# Altium integrated library My_Microchip Microcontroller 8-Bit PIC18.IntLib: 1312 symbols (part 16 of 58)
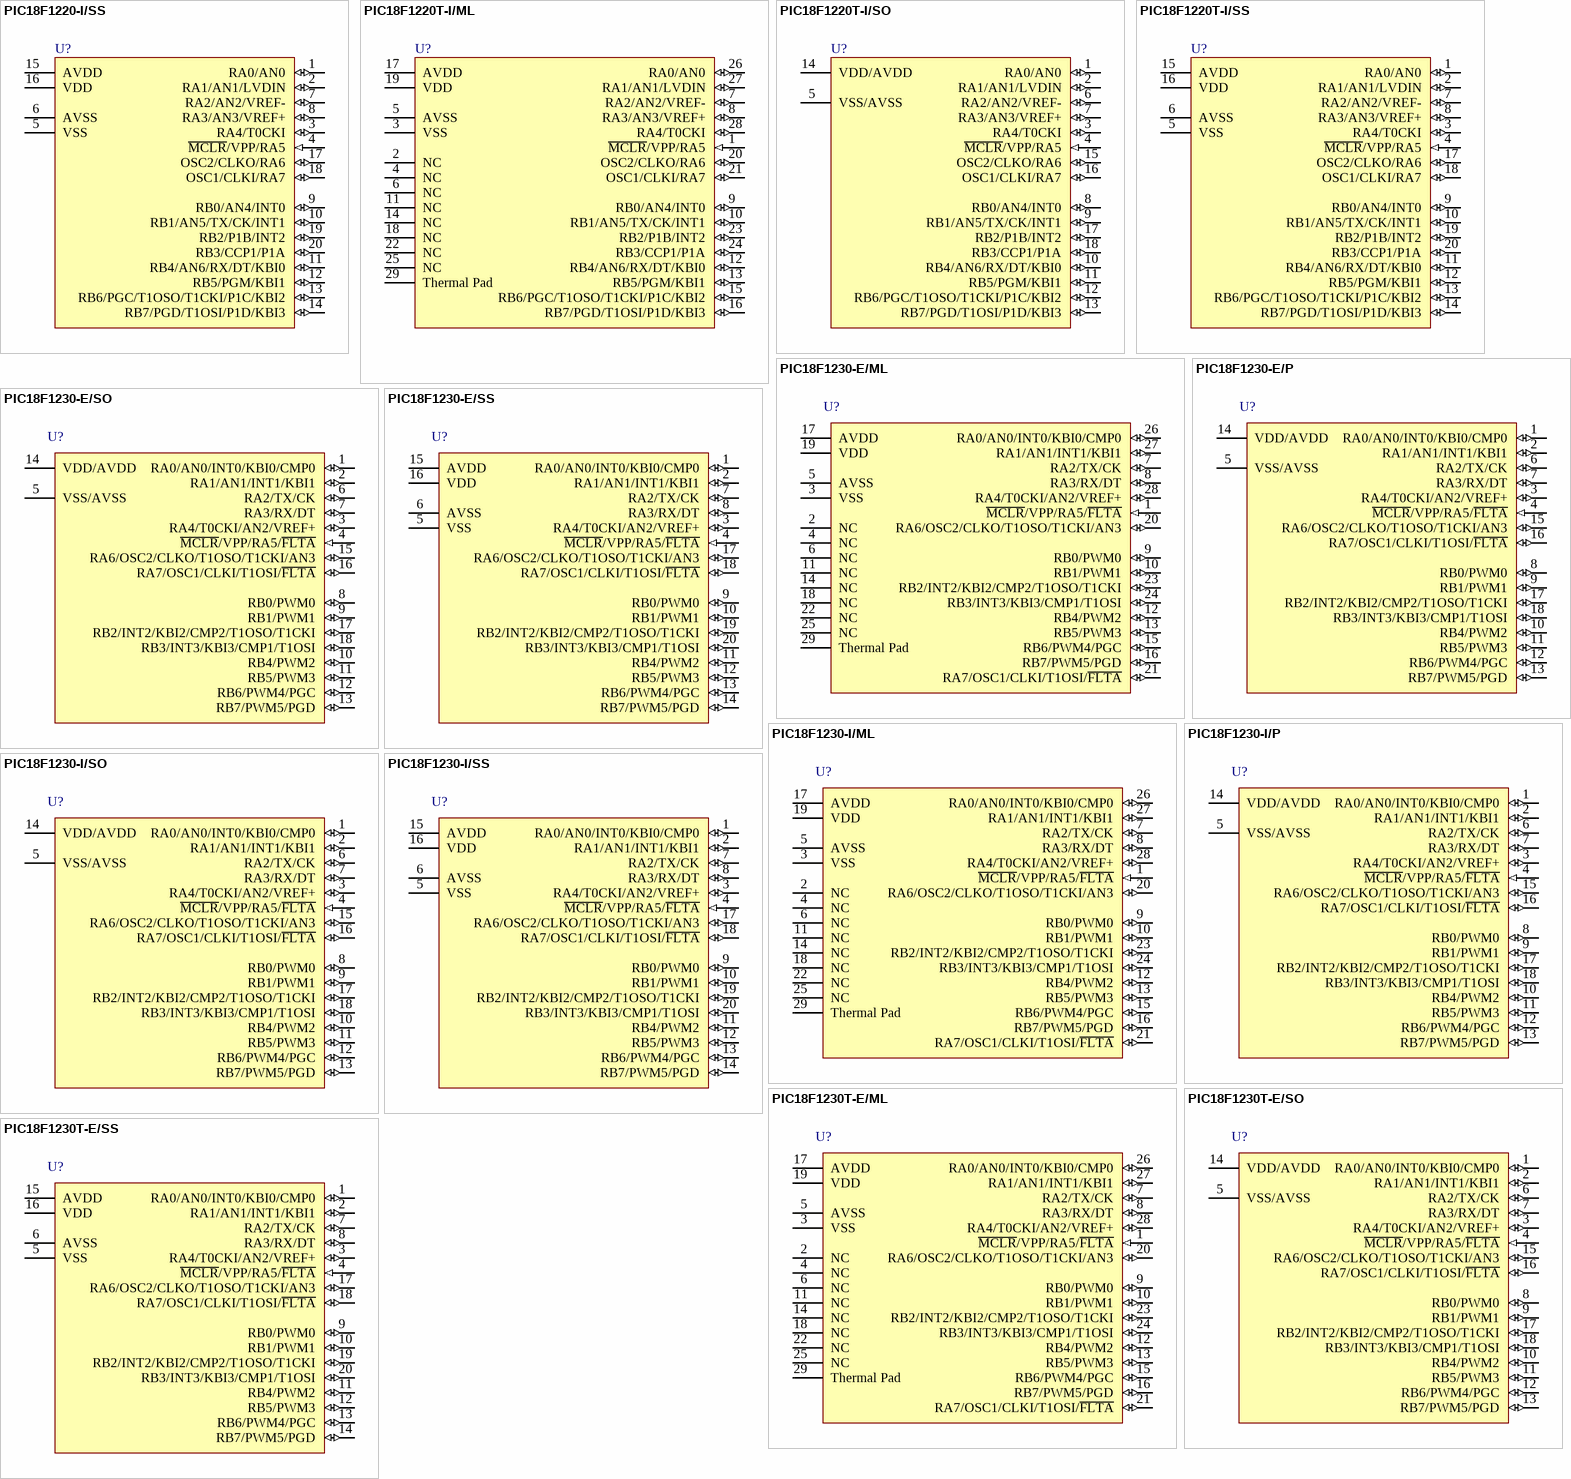
[diagram p164: symbols PIC18F1220-I/SS to PIC18F1230T-E/SS]

## PIC18F1220-I/SS
designator U?
High Performance, Enhanced Flash Microcontroller with 10-Bit A/D and nanoWatt Technology, 4K Flash, 20-Pin SSOP, Industrial Temperature; FirstPublished: 11-Oct-2004; LatestRevisionDate: 29-Jan-2009; LatestRevisionNote: Sch. layout revised. 3D Model Removed.; DatasheetVersion: revF, Feb-2007; PackageVersion: revBB, Aug-2009; PackageReference: SSOP-SS20; Publisher: Altium Limited; PackageDescription: 20-Lead Plastic Shrink Small Outline (SS) - 5.3mm Body [SSOP]; Supplier 1: Digi-Key; Supplier Part Number 1: PIC18F1220-I/SS-ND; Supplier 2: Farnell; Supplier Part Number 2: 9761993; Supplier 3: Newark; Supplier Part Number 3: 92C4997; Code_JEDEC: MO-150; Code_IPC: SOP65P780-20; ComponentLink1Description: Datasheet; ComponentLink1URL: http://ww1.microchip.com/downloads/en/DeviceDoc/39605F.pdf; ComponentLink2Description: Packaging Specification; ComponentLink2URL: http://www.microchip.com/stellent/groups/techpub_sg/documents/packagingspec/en012702.pdf; ComponentLink3Description: Microchip.com Home; ComponentLink3URL: http://www.microchip.com/
footprint SSOP-SS20_N (SOP, 20-Leads, Body 7.2x5.2mm, Pitch 0.65mm, IPC Medium Density)
footprint SSOP-SS20_L (SOP, 20-Leads, Body 7.2x5.2mm, Pitch 0.65mm, IPC High Density)
footprint SSOP-SS20_M (SOP, 20-Leads, Body 7.2x5.2mm, Pitch 0.65mm, IPC Low Density)
pins: 1 RA0/AN0 (io), 2 RA1/AN1/LVDIN (io), 3 RA4/T0CKI (io), 4 ~{MCLR}/VPP/RA5 (in), 5 VSS (power), 6 AVSS (power), 7 RA2/AN2/VREF- (io), 8 RA3/AN3/VREF+ (io), 9 RB0/AN4/INT0 (io), 10 RB1/AN5/TX/CK/INT1 (io), 11 RB4/AN6/RX/DT/KBI0 (io), 12 RB5/PGM/KBI1 (io), 13 RB6/PGC/T1OSO/T1CKI/P1C/KBI2 (io), 14 RB7/PGD/T1OSI/P1D/KBI3 (io), 15 AVDD (power), 16 VDD (power), 17 OSC2/CLKO/RA6 (io), 18 OSC1/CLKI/RA7 (io), 19 RB2/P1B/INT2 (io), 20 RB3/CCP1/P1A (io)

## PIC18F1220T-I/ML
designator U?
High Performance, Enhanced Flash Microcontroller with 10-Bit A/D and nanoWatt Technology, 4K Flash, 28-Pin QFN, Industrial Temperature, Tape and Reel; FirstPublished: 11-Oct-2004; LatestRevisionDate: 29-Jan-2009; LatestRevisionNote: Sch. layout revised. 3D Model Removed.; DatasheetVersion: revF, Feb-2007; PackageVersion: revBB, Aug-2009; PackageReference: QFN-ML28; Publisher: Altium Limited; PackageDescription: 28-Lead Plastic Quad Flat, No Lead Package (ML) - 6x6 mm Body [QFN] with 0.55 mm Contact Length; Supplier 1: Digi-Key; Supplier Part Number 1: PIC18F1220T-I/ML-ND; Code_JEDEC: MO-220; Code_IPC: QFN65P600X600-28V; ComponentLink1Description: Datasheet; ComponentLink1URL: http://ww1.microchip.com/downloads/en/DeviceDoc/39605F.pdf; ComponentLink2Description: Packaging Specification; ComponentLink2URL: http://www.microchip.com/stellent/groups/techpub_sg/documents/packagingspec/en012702.pdf; ComponentLink3Description: Microchip.com Home; ComponentLink3URL: http://www.microchip.com/
footprint QFN-ML28_N (QFN, 28-Leads, Body 6x6 mm, Pitch 0.65mm, IPC Medium Density)
footprint QFN-ML28_L (QFN, 28-Leads, Body 6x6 mm, Pitch 0.65mm, IPC High Density)
footprint QFN-ML28_M (QFN, 28-Leads, Body 6x6 mm, Pitch 0.65mm, IPC Low Density)
pins: 1 ~{MCLR}/VPP/RA5 (in), 2 NC, 3 VSS (power), 4 NC, 5 AVSS (power), 6 NC, 7 RA2/AN2/VREF- (io), 8 RA3/AN3/VREF+ (io), 9 RB0/AN4/INT0 (io), 10 RB1/AN5/TX/CK/INT1 (io), 11 NC, 12 RB4/AN6/RX/DT/KBI0 (io), 13 RB5/PGM/KBI1 (io), 14 NC, 15 RB6/PGC/T1OSO/T1CKI/P1C/KBI2 (io), 16 RB7/PGD/T1OSI/P1D/KBI3 (io), 17 AVDD (power), 18 NC, 19 VDD (power), 20 OSC2/CLKO/RA6 (io), 21 OSC1/CLKI/RA7 (io), 22 NC, 23 RB2/P1B/INT2 (io), 24 RB3/CCP1/P1A (io), 25 NC, 26 RA0/AN0 (io), 27 RA1/AN1/LVDIN (io), 28 RA4/T0CKI (io), 29 Thermal Pad (power)

## PIC18F1220T-I/SO
designator U?
High Performance, Enhanced Flash Microcontroller with 10-Bit A/D and nanoWatt Technology, 4K Flash, 18-Pin SOIC, Industrial Temperature, Tape and Reel; FirstPublished: 11-Oct-2004; LatestRevisionDate: 29-Jan-2009; LatestRevisionNote: Sch. layout revised. 3D Model Removed.; DatasheetVersion: revF, Feb-2007; PackageVersion: revBB, Aug-2009; PackageReference: SOIC-SO18; Publisher: Altium Limited; PackageDescription: 18-Lead Plastic Small Outline (SO) - Wide 7.50mm Body [SOIC]; Supplier 1: Digi-Key; Supplier Part Number 1: PIC18F1220T-I/SO-ND; Code_JEDEC: MS-013; ComponentLink1Description: Datasheet; ComponentLink1URL: http://ww1.microchip.com/downloads/en/DeviceDoc/39605F.pdf; ComponentLink2Description: Packaging Specification; ComponentLink2URL: http://www.microchip.com/stellent/groups/techpub_sg/documents/packagingspec/en012702.pdf; ComponentLink3Description: Microchip.com Home; ComponentLink3URL: http://www.microchip.com/
footprint SOIC-SO18_N (SOIC, 18-Leads, Body 11.5x7.5mm, Pitch 1.27mm, IPC Medium Density)
footprint SOIC-SO18_L (SOIC, 18-Leads, Body 11.5x7.5mm, Pitch 1.27mm, IPC High Density)
footprint SOIC-SO18_M (SOIC, 18-Leads, Body 11.5x7.5mm, Pitch 1.27mm, IPC Low Density)
pins: 1 RA0/AN0 (io), 2 RA1/AN1/LVDIN (io), 3 RA4/T0CKI (io), 4 ~{MCLR}/VPP/RA5 (in), 5 VSS/AVSS (power), 6 RA2/AN2/VREF- (io), 7 RA3/AN3/VREF+ (io), 8 RB0/AN4/INT0 (io), 9 RB1/AN5/TX/CK/INT1 (io), 10 RB4/AN6/RX/DT/KBI0 (io), 11 RB5/PGM/KBI1 (io), 12 RB6/PGC/T1OSO/T1CKI/P1C/KBI2 (io), 13 RB7/PGD/T1OSI/P1D/KBI3 (io), 14 VDD/AVDD (power), 15 OSC2/CLKO/RA6 (io), 16 OSC1/CLKI/RA7 (io), 17 RB2/P1B/INT2 (io), 18 RB3/CCP1/P1A (io)

## PIC18F1220T-I/SS
designator U?
High Performance, Enhanced Flash Microcontroller with 10-Bit A/D and nanoWatt Technology, 4K Flash, 20-Pin SSOP, Industrial Temperature, Tape and Reel; FirstPublished: 11-Oct-2004; LatestRevisionDate: 29-Jan-2009; LatestRevisionNote: Sch. layout revised. 3D Model Removed.; DatasheetVersion: revF, Feb-2007; PackageVersion: revBB, Aug-2009; PackageReference: SSOP-SS20; Publisher: Altium Limited; PackageDescription: 20-Lead Plastic Shrink Small Outline (SS) - 5.3mm Body [SSOP]; Supplier 1: Digi-Key; Supplier Part Number 1: PIC18F1220T-I/SS-ND; Code_JEDEC: MO-150; Code_IPC: SOP65P780-20; ComponentLink1Description: Datasheet; ComponentLink1URL: http://ww1.microchip.com/downloads/en/DeviceDoc/39605F.pdf; ComponentLink2Description: Packaging Specification; ComponentLink2URL: http://www.microchip.com/stellent/groups/techpub_sg/documents/packagingspec/en012702.pdf; ComponentLink3Description: Microchip.com Home; ComponentLink3URL: http://www.microchip.com/
footprint SSOP-SS20_N (SOP, 20-Leads, Body 7.2x5.2mm, Pitch 0.65mm, IPC Medium Density)
footprint SSOP-SS20_L (SOP, 20-Leads, Body 7.2x5.2mm, Pitch 0.65mm, IPC High Density)
footprint SSOP-SS20_M (SOP, 20-Leads, Body 7.2x5.2mm, Pitch 0.65mm, IPC Low Density)
pins: 1 RA0/AN0 (io), 2 RA1/AN1/LVDIN (io), 3 RA4/T0CKI (io), 4 ~{MCLR}/VPP/RA5 (in), 5 VSS (power), 6 AVSS (power), 7 RA2/AN2/VREF- (io), 8 RA3/AN3/VREF+ (io), 9 RB0/AN4/INT0 (io), 10 RB1/AN5/TX/CK/INT1 (io), 11 RB4/AN6/RX/DT/KBI0 (io), 12 RB5/PGM/KBI1 (io), 13 RB6/PGC/T1OSO/T1CKI/P1C/KBI2 (io), 14 RB7/PGD/T1OSI/P1D/KBI3 (io), 15 AVDD (power), 16 VDD (power), 17 OSC2/CLKO/RA6 (io), 18 OSC1/CLKI/RA7 (io), 19 RB2/P1B/INT2 (io), 20 RB3/CCP1/P1A (io)

## PIC18F1230-E/ML
designator U?
Enhanced Flash Microcontroller with nanoWatt Technology, High Performance PWM and A/D, 4K Flash, 28-Pin QFN, Extended Temperature; FirstPublished: 29-Jan-2009; DatasheetVersion: revC, Mar-2007; PackageVersion: revBB, Aug-2009; PackageReference: QFN-ML28; Publisher: Altium Limited; PackageDescription: 28-Lead Plastic Quad Flat, No Lead Package (ML) - 6x6 mm Body [QFN] with 0.55 mm Contact Length; Supplier 1: Digi-Key; Supplier Part Number 1: PIC18F1230-E/ML-ND; Supplier 2: Newark; Supplier Part Number 2: 88K5933; Code_JEDEC: MO-220; Code_IPC: QFN65P600X600-28V; ComponentLink1Description: Datasheet; ComponentLink1URL: http://ww1.microchip.com/downloads/en/DeviceDoc/39758c.pdf; ComponentLink2Description: Packaging Specification; ComponentLink2URL: http://www.microchip.com/stellent/groups/techpub_sg/documents/packagingspec/en012702.pdf; ComponentLink3Description: Microchip.com Home; ComponentLink3URL: http://www.microchip.com/
footprint QFN-ML28_N (QFN, 28-Leads, Body 6x6 mm, Pitch 0.65mm, IPC Medium Density)
footprint QFN-ML28_L (QFN, 28-Leads, Body 6x6 mm, Pitch 0.65mm, IPC High Density)
footprint QFN-ML28_M (QFN, 28-Leads, Body 6x6 mm, Pitch 0.65mm, IPC Low Density)
pins: 1 ~{MCLR}/VPP/RA5/~{FLTA} (in), 2 NC, 3 VSS (power), 4 NC, 5 AVSS (power), 6 NC, 7 RA2/TX/CK (io), 8 RA3/RX/DT (io), 9 RB0/PWM0 (io), 10 RB1/PWM1 (io), 11 NC, 12 RB4/PWM2 (io), 13 RB5/PWM3 (io), 14 NC, 15 RB6/PWM4/PGC (io), 16 RB7/PWM5/PGD (io), 17 AVDD (power), 18 NC, 19 VDD (power), 20 RA6/OSC2/CLKO/T1OSO/T1CKI/AN3 (io), 21 RA7/OSC1/CLKI/T1OSI/~{FLTA} (io), 22 NC, 23 RB2/INT2/KBI2/CMP2/T1OSO/T1CKI (io), 24 RB3/INT3/KBI3/CMP1/T1OSI (io), 25 NC, 26 RA0/AN0/INT0/KBI0/CMP0 (io), 27 RA1/AN1/INT1/KBI1 (io), 28 RA4/T0CKI/AN2/VREF+ (io), 29 Thermal Pad (power)

## PIC18F1230-E/P
designator U?
Enhanced Flash Microcontroller with nanoWatt Technology, High Performance PWM and A/D, 4K Flash, 18-Pin PDIP, Extended Temperature; FirstPublished: 29-Jan-2009; DatasheetVersion: revC, Mar-2007; PackageVersion: revBB, Aug-2009; PackageReference: PDIP300-P18; Publisher: Altium Limited; PackageDescription: 18-Lead Plastic Dual In-Line (P) - 300 mil Body [PDIP]; Supplier 1: Digi-Key; Supplier Part Number 1: PIC18F1230-E/P-ND; Supplier 2: Newark; Supplier Part Number 2: 88K5934; Code_JEDEC: MS-001; ComponentLink1Description: Datasheet; ComponentLink1URL: http://ww1.microchip.com/downloads/en/DeviceDoc/39758c.pdf; ComponentLink2Description: Packaging Specification; ComponentLink2URL: http://www.microchip.com/stellent/groups/techpub_sg/documents/packagingspec/en012702.pdf; ComponentLink3Description: Microchip.com Home; ComponentLink3URL: http://www.microchip.com/
footprint PDIP300-P18 (DIP, 18-Leads, Row Spacing 7.62mm, Pitch 2.54mm, Body 22.9x6.6mm)
pins: 1 RA0/AN0/INT0/KBI0/CMP0 (io), 2 RA1/AN1/INT1/KBI1 (io), 3 RA4/T0CKI/AN2/VREF+ (io), 4 ~{MCLR}/VPP/RA5/~{FLTA} (in), 5 VSS/AVSS (power), 6 RA2/TX/CK (io), 7 RA3/RX/DT (io), 8 RB0/PWM0 (io), 9 RB1/PWM1 (io), 10 RB4/PWM2 (io), 11 RB5/PWM3 (io), 12 RB6/PWM4/PGC (io), 13 RB7/PWM5/PGD (io), 14 VDD/AVDD (power), 15 RA6/OSC2/CLKO/T1OSO/T1CKI/AN3 (io), 16 RA7/OSC1/CLKI/T1OSI/~{FLTA} (io), 17 RB2/INT2/KBI2/CMP2/T1OSO/T1CKI (io), 18 RB3/INT3/KBI3/CMP1/T1OSI (io)

## PIC18F1230-E/SO
designator U?
Enhanced Flash Microcontroller with nanoWatt Technology, High Performance PWM and A/D, 4K Flash, 18-Pin SOIC, Extended Temperature; FirstPublished: 29-Jan-2009; DatasheetVersion: revC, Mar-2007; PackageVersion: revBB, Aug-2009; PackageReference: SOIC-SO18; Publisher: Altium Limited; PackageDescription: 18-Lead Plastic Small Outline (SO) - Wide 7.50mm Body [SOIC]; Supplier 1: Digi-Key; Supplier Part Number 1: PIC18F1230-E/SO-ND; Supplier 2: Newark; Supplier Part Number 2: 88K5935; Code_JEDEC: MS-013; ComponentLink1Description: Datasheet; ComponentLink1URL: http://ww1.microchip.com/downloads/en/DeviceDoc/39758c.pdf; ComponentLink2Description: Packaging Specification; ComponentLink2URL: http://www.microchip.com/stellent/groups/techpub_sg/documents/packagingspec/en012702.pdf; ComponentLink3Description: Microchip.com Home; ComponentLink3URL: http://www.microchip.com/
footprint SOIC-SO18_N (SOIC, 18-Leads, Body 11.5x7.5mm, Pitch 1.27mm, IPC Medium Density)
footprint SOIC-SO18_L (SOIC, 18-Leads, Body 11.5x7.5mm, Pitch 1.27mm, IPC High Density)
footprint SOIC-SO18_M (SOIC, 18-Leads, Body 11.5x7.5mm, Pitch 1.27mm, IPC Low Density)
pins: 1 RA0/AN0/INT0/KBI0/CMP0 (io), 2 RA1/AN1/INT1/KBI1 (io), 3 RA4/T0CKI/AN2/VREF+ (io), 4 ~{MCLR}/VPP/RA5/~{FLTA} (in), 5 VSS/AVSS (power), 6 RA2/TX/CK (io), 7 RA3/RX/DT (io), 8 RB0/PWM0 (io), 9 RB1/PWM1 (io), 10 RB4/PWM2 (io), 11 RB5/PWM3 (io), 12 RB6/PWM4/PGC (io), 13 RB7/PWM5/PGD (io), 14 VDD/AVDD (power), 15 RA6/OSC2/CLKO/T1OSO/T1CKI/AN3 (io), 16 RA7/OSC1/CLKI/T1OSI/~{FLTA} (io), 17 RB2/INT2/KBI2/CMP2/T1OSO/T1CKI (io), 18 RB3/INT3/KBI3/CMP1/T1OSI (io)

## PIC18F1230-E/SS
designator U?
Enhanced Flash Microcontroller with nanoWatt Technology, High Performance PWM and A/D, 4K Flash, 20-Pin SSOP, Extended Temperature; FirstPublished: 29-Jan-2009; DatasheetVersion: revC, Mar-2007; PackageVersion: revBB, Aug-2009; PackageReference: SSOP-SS20; Publisher: Altium Limited; PackageDescription: 20-Lead Plastic Shrink Small Outline (SS) - 5.3mm Body [SSOP]; Supplier 1: Digi-Key; Supplier Part Number 1: PIC18F1230-E/SS-ND; Supplier 2: Newark; Supplier Part Number 2: 88K5936; Code_JEDEC: MO-150; Code_IPC: SOP65P780-20; ComponentLink1Description: Datasheet; ComponentLink1URL: http://ww1.microchip.com/downloads/en/DeviceDoc/39758c.pdf; ComponentLink2Description: Packaging Specification; ComponentLink2URL: http://www.microchip.com/stellent/groups/techpub_sg/documents/packagingspec/en012702.pdf; ComponentLink3Description: Microchip.com Home; ComponentLink3URL: http://www.microchip.com/
footprint SSOP-SS20_N (SOP, 20-Leads, Body 7.2x5.2mm, Pitch 0.65mm, IPC Medium Density)
footprint SSOP-SS20_L (SOP, 20-Leads, Body 7.2x5.2mm, Pitch 0.65mm, IPC High Density)
footprint SSOP-SS20_M (SOP, 20-Leads, Body 7.2x5.2mm, Pitch 0.65mm, IPC Low Density)
pins: 1 RA0/AN0/INT0/KBI0/CMP0 (io), 2 RA1/AN1/INT1/KBI1 (io), 3 RA4/T0CKI/AN2/VREF+ (io), 4 ~{MCLR}/VPP/RA5/~{FLTA} (in), 5 VSS (power), 6 AVSS (power), 7 RA2/TX/CK (io), 8 RA3/RX/DT (io), 9 RB0/PWM0 (io), 10 RB1/PWM1 (io), 11 RB4/PWM2 (io), 12 RB5/PWM3 (io), 13 RB6/PWM4/PGC (io), 14 RB7/PWM5/PGD (io), 15 AVDD (power), 16 VDD (power), 17 RA6/OSC2/CLKO/T1OSO/T1CKI/AN3 (io), 18 RA7/OSC1/CLKI/T1OSI/~{FLTA} (io), 19 RB2/INT2/KBI2/CMP2/T1OSO/T1CKI (io), 20 RB3/INT3/KBI3/CMP1/T1OSI (io)

## PIC18F1230-I/ML
designator U?
Enhanced Flash Microcontroller with nanoWatt Technology, High Performance PWM and A/D, 4K Flash, 28-Pin QFN, Industrial Temperature; FirstPublished: 29-Jan-2009; DatasheetVersion: revC, Mar-2007; PackageVersion: revBB, Aug-2009; PackageReference: QFN-ML28; Publisher: Altium Limited; PackageDescription: 28-Lead Plastic Quad Flat, No Lead Package (ML) - 6x6 mm Body [QFN] with 0.55 mm Contact Length; Supplier 1: Digi-Key; Supplier Part Number 1: PIC18F1230-I/ML-ND; Supplier 2: Newark; Supplier Part Number 2: 88K5937; Code_JEDEC: MO-220; Code_IPC: QFN65P600X600-28V; ComponentLink1Description: Datasheet; ComponentLink1URL: http://ww1.microchip.com/downloads/en/DeviceDoc/39758c.pdf; ComponentLink2Description: Packaging Specification; ComponentLink2URL: http://www.microchip.com/stellent/groups/techpub_sg/documents/packagingspec/en012702.pdf; ComponentLink3Description: Microchip.com Home; ComponentLink3URL: http://www.microchip.com/
footprint QFN-ML28_N (QFN, 28-Leads, Body 6x6 mm, Pitch 0.65mm, IPC Medium Density)
footprint QFN-ML28_L (QFN, 28-Leads, Body 6x6 mm, Pitch 0.65mm, IPC High Density)
footprint QFN-ML28_M (QFN, 28-Leads, Body 6x6 mm, Pitch 0.65mm, IPC Low Density)
pins: 1 ~{MCLR}/VPP/RA5/~{FLTA} (in), 2 NC, 3 VSS (power), 4 NC, 5 AVSS (power), 6 NC, 7 RA2/TX/CK (io), 8 RA3/RX/DT (io), 9 RB0/PWM0 (io), 10 RB1/PWM1 (io), 11 NC, 12 RB4/PWM2 (io), 13 RB5/PWM3 (io), 14 NC, 15 RB6/PWM4/PGC (io), 16 RB7/PWM5/PGD (io), 17 AVDD (power), 18 NC, 19 VDD (power), 20 RA6/OSC2/CLKO/T1OSO/T1CKI/AN3 (io), 21 RA7/OSC1/CLKI/T1OSI/~{FLTA} (io), 22 NC, 23 RB2/INT2/KBI2/CMP2/T1OSO/T1CKI (io), 24 RB3/INT3/KBI3/CMP1/T1OSI (io), 25 NC, 26 RA0/AN0/INT0/KBI0/CMP0 (io), 27 RA1/AN1/INT1/KBI1 (io), 28 RA4/T0CKI/AN2/VREF+ (io), 29 Thermal Pad (power)

## PIC18F1230-I/P
designator U?
Enhanced Flash Microcontroller with nanoWatt Technology, High Performance PWM and A/D, 4K Flash, 18-Pin PDIP, Industrial Temperature; FirstPublished: 29-Jan-2009; DatasheetVersion: revC, Mar-2007; PackageVersion: revBB, Aug-2009; PackageReference: PDIP300-P18; Publisher: Altium Limited; PackageDescription: 18-Lead Plastic Dual In-Line (P) - 300 mil Body [PDIP]; Supplier 1: Digi-Key; Supplier Part Number 1: PIC18F1230-I/P-ND; Supplier 2: Farnell; Supplier Part Number 2: 1332230; Supplier 3: Newark; Supplier Part Number 3: 88K5938; Code_JEDEC: MS-001; ComponentLink1Description: Datasheet; ComponentLink1URL: http://ww1.microchip.com/downloads/en/DeviceDoc/39758c.pdf; ComponentLink2Description: Packaging Specification; ComponentLink2URL: http://www.microchip.com/stellent/groups/techpub_sg/documents/packagingspec/en012702.pdf; ComponentLink3Description: Microchip.com Home; ComponentLink3URL: http://www.microchip.com/
footprint PDIP300-P18 (DIP, 18-Leads, Row Spacing 7.62mm, Pitch 2.54mm, Body 22.9x6.6mm)
pins: 1 RA0/AN0/INT0/KBI0/CMP0 (io), 2 RA1/AN1/INT1/KBI1 (io), 3 RA4/T0CKI/AN2/VREF+ (io), 4 ~{MCLR}/VPP/RA5/~{FLTA} (in), 5 VSS/AVSS (power), 6 RA2/TX/CK (io), 7 RA3/RX/DT (io), 8 RB0/PWM0 (io), 9 RB1/PWM1 (io), 10 RB4/PWM2 (io), 11 RB5/PWM3 (io), 12 RB6/PWM4/PGC (io), 13 RB7/PWM5/PGD (io), 14 VDD/AVDD (power), 15 RA6/OSC2/CLKO/T1OSO/T1CKI/AN3 (io), 16 RA7/OSC1/CLKI/T1OSI/~{FLTA} (io), 17 RB2/INT2/KBI2/CMP2/T1OSO/T1CKI (io), 18 RB3/INT3/KBI3/CMP1/T1OSI (io)

## PIC18F1230-I/SO
designator U?
Enhanced Flash Microcontroller with nanoWatt Technology, High Performance PWM and A/D, 4K Flash, 18-Pin SOIC, Industrial Temperature; FirstPublished: 29-Jan-2009; DatasheetVersion: revC, Mar-2007; PackageVersion: revBB, Aug-2009; PackageReference: SOIC-SO18; Publisher: Altium Limited; PackageDescription: 18-Lead Plastic Small Outline (SO) - Wide 7.50mm Body [SOIC]; Supplier 1: Digi-Key; Supplier Part Number 1: PIC18F1230-I/SO-ND; Supplier 2: Farnell; Supplier Part Number 2: 1332231; Supplier 3: Newark; Supplier Part Number 3: 88K5939; Code_JEDEC: MS-013; ComponentLink1Description: Datasheet; ComponentLink1URL: http://ww1.microchip.com/downloads/en/DeviceDoc/39758c.pdf; ComponentLink2Description: Packaging Specification; ComponentLink2URL: http://www.microchip.com/stellent/groups/techpub_sg/documents/packagingspec/en012702.pdf; ComponentLink3Description: Microchip.com Home; ComponentLink3URL: http://www.microchip.com/
footprint SOIC-SO18_N (SOIC, 18-Leads, Body 11.5x7.5mm, Pitch 1.27mm, IPC Medium Density)
footprint SOIC-SO18_L (SOIC, 18-Leads, Body 11.5x7.5mm, Pitch 1.27mm, IPC High Density)
footprint SOIC-SO18_M (SOIC, 18-Leads, Body 11.5x7.5mm, Pitch 1.27mm, IPC Low Density)
pins: 1 RA0/AN0/INT0/KBI0/CMP0 (io), 2 RA1/AN1/INT1/KBI1 (io), 3 RA4/T0CKI/AN2/VREF+ (io), 4 ~{MCLR}/VPP/RA5/~{FLTA} (in), 5 VSS/AVSS (power), 6 RA2/TX/CK (io), 7 RA3/RX/DT (io), 8 RB0/PWM0 (io), 9 RB1/PWM1 (io), 10 RB4/PWM2 (io), 11 RB5/PWM3 (io), 12 RB6/PWM4/PGC (io), 13 RB7/PWM5/PGD (io), 14 VDD/AVDD (power), 15 RA6/OSC2/CLKO/T1OSO/T1CKI/AN3 (io), 16 RA7/OSC1/CLKI/T1OSI/~{FLTA} (io), 17 RB2/INT2/KBI2/CMP2/T1OSO/T1CKI (io), 18 RB3/INT3/KBI3/CMP1/T1OSI (io)

## PIC18F1230-I/SS
designator U?
Enhanced Flash Microcontroller with nanoWatt Technology, High Performance PWM and A/D, 4K Flash, 20-Pin SSOP, Industrial Temperature; FirstPublished: 29-Jan-2009; DatasheetVersion: revC, Mar-2007; PackageVersion: revBB, Aug-2009; PackageReference: SSOP-SS20; Publisher: Altium Limited; PackageDescription: 20-Lead Plastic Shrink Small Outline (SS) - 5.3mm Body [SSOP]; Supplier 1: Digi-Key; Supplier Part Number 1: PIC18F1230-I/SS-ND; Supplier 2: Newark; Supplier Part Number 2: 88K5940; Code_JEDEC: MO-150; Code_IPC: SOP65P780-20; ComponentLink1Description: Datasheet; ComponentLink1URL: http://ww1.microchip.com/downloads/en/DeviceDoc/39758c.pdf; ComponentLink2Description: Packaging Specification; ComponentLink2URL: http://www.microchip.com/stellent/groups/techpub_sg/documents/packagingspec/en012702.pdf; ComponentLink3Description: Microchip.com Home; ComponentLink3URL: http://www.microchip.com/
footprint SSOP-SS20_N (SOP, 20-Leads, Body 7.2x5.2mm, Pitch 0.65mm, IPC Medium Density)
footprint SSOP-SS20_L (SOP, 20-Leads, Body 7.2x5.2mm, Pitch 0.65mm, IPC High Density)
footprint SSOP-SS20_M (SOP, 20-Leads, Body 7.2x5.2mm, Pitch 0.65mm, IPC Low Density)
pins: 1 RA0/AN0/INT0/KBI0/CMP0 (io), 2 RA1/AN1/INT1/KBI1 (io), 3 RA4/T0CKI/AN2/VREF+ (io), 4 ~{MCLR}/VPP/RA5/~{FLTA} (in), 5 VSS (power), 6 AVSS (power), 7 RA2/TX/CK (io), 8 RA3/RX/DT (io), 9 RB0/PWM0 (io), 10 RB1/PWM1 (io), 11 RB4/PWM2 (io), 12 RB5/PWM3 (io), 13 RB6/PWM4/PGC (io), 14 RB7/PWM5/PGD (io), 15 AVDD (power), 16 VDD (power), 17 RA6/OSC2/CLKO/T1OSO/T1CKI/AN3 (io), 18 RA7/OSC1/CLKI/T1OSI/~{FLTA} (io), 19 RB2/INT2/KBI2/CMP2/T1OSO/T1CKI (io), 20 RB3/INT3/KBI3/CMP1/T1OSI (io)

## PIC18F1230T-E/ML
designator U?
Enhanced Flash Microcontroller with nanoWatt Technology, High Performance PWM and A/D, 4K Flash, 28-Pin QFN, Extended Temperature, Tape and Reel; FirstPublished: 29-Jan-2009; DatasheetVersion: revC, Mar-2007; PackageVersion: revBB, Aug-2009; PackageReference: QFN-ML28; Publisher: Altium Limited; PackageDescription: 28-Lead Plastic Quad Flat, No Lead Package (ML) - 6x6 mm Body [QFN] with 0.55 mm Contact Length; Code_JEDEC: MO-220; Code_IPC: QFN65P600X600-28V; ComponentLink1Description: Datasheet; ComponentLink1URL: http://ww1.microchip.com/downloads/en/DeviceDoc/39758c.pdf; ComponentLink2Description: Packaging Specification; ComponentLink2URL: http://www.microchip.com/stellent/groups/techpub_sg/documents/packagingspec/en012702.pdf; ComponentLink3Description: Microchip.com Home; ComponentLink3URL: http://www.microchip.com/
footprint QFN-ML28_N (QFN, 28-Leads, Body 6x6 mm, Pitch 0.65mm, IPC Medium Density)
footprint QFN-ML28_L (QFN, 28-Leads, Body 6x6 mm, Pitch 0.65mm, IPC High Density)
footprint QFN-ML28_M (QFN, 28-Leads, Body 6x6 mm, Pitch 0.65mm, IPC Low Density)
pins: 1 ~{MCLR}/VPP/RA5/~{FLTA} (in), 2 NC, 3 VSS (power), 4 NC, 5 AVSS (power), 6 NC, 7 RA2/TX/CK (io), 8 RA3/RX/DT (io), 9 RB0/PWM0 (io), 10 RB1/PWM1 (io), 11 NC, 12 RB4/PWM2 (io), 13 RB5/PWM3 (io), 14 NC, 15 RB6/PWM4/PGC (io), 16 RB7/PWM5/PGD (io), 17 AVDD (power), 18 NC, 19 VDD (power), 20 RA6/OSC2/CLKO/T1OSO/T1CKI/AN3 (io), 21 RA7/OSC1/CLKI/T1OSI/~{FLTA} (io), 22 NC, 23 RB2/INT2/KBI2/CMP2/T1OSO/T1CKI (io), 24 RB3/INT3/KBI3/CMP1/T1OSI (io), 25 NC, 26 RA0/AN0/INT0/KBI0/CMP0 (io), 27 RA1/AN1/INT1/KBI1 (io), 28 RA4/T0CKI/AN2/VREF+ (io), 29 Thermal Pad (power)

## PIC18F1230T-E/SO
designator U?
Enhanced Flash Microcontroller with nanoWatt Technology, High Performance PWM and A/D, 4K Flash, 18-Pin SOIC, Extended Temperature, Tape and Reel; FirstPublished: 29-Jan-2009; DatasheetVersion: revC, Mar-2007; PackageVersion: revBB, Aug-2009; PackageReference: SOIC-SO18; Publisher: Altium Limited; PackageDescription: 18-Lead Plastic Small Outline (SO) - Wide 7.50mm Body [SOIC]; Code_JEDEC: MS-013; ComponentLink1Description: Datasheet; ComponentLink1URL: http://ww1.microchip.com/downloads/en/DeviceDoc/39758c.pdf; ComponentLink2Description: Packaging Specification; ComponentLink2URL: http://www.microchip.com/stellent/groups/techpub_sg/documents/packagingspec/en012702.pdf; ComponentLink3Description: Microchip.com Home; ComponentLink3URL: http://www.microchip.com/
footprint SOIC-SO18_N (SOIC, 18-Leads, Body 11.5x7.5mm, Pitch 1.27mm, IPC Medium Density)
footprint SOIC-SO18_L (SOIC, 18-Leads, Body 11.5x7.5mm, Pitch 1.27mm, IPC High Density)
footprint SOIC-SO18_M (SOIC, 18-Leads, Body 11.5x7.5mm, Pitch 1.27mm, IPC Low Density)
pins: 1 RA0/AN0/INT0/KBI0/CMP0 (io), 2 RA1/AN1/INT1/KBI1 (io), 3 RA4/T0CKI/AN2/VREF+ (io), 4 ~{MCLR}/VPP/RA5/~{FLTA} (in), 5 VSS/AVSS (power), 6 RA2/TX/CK (io), 7 RA3/RX/DT (io), 8 RB0/PWM0 (io), 9 RB1/PWM1 (io), 10 RB4/PWM2 (io), 11 RB5/PWM3 (io), 12 RB6/PWM4/PGC (io), 13 RB7/PWM5/PGD (io), 14 VDD/AVDD (power), 15 RA6/OSC2/CLKO/T1OSO/T1CKI/AN3 (io), 16 RA7/OSC1/CLKI/T1OSI/~{FLTA} (io), 17 RB2/INT2/KBI2/CMP2/T1OSO/T1CKI (io), 18 RB3/INT3/KBI3/CMP1/T1OSI (io)

## PIC18F1230T-E/SS
designator U?
Enhanced Flash Microcontroller with nanoWatt Technology, High Performance PWM and A/D, 4K Flash, 20-Pin SSOP, Extended Temperature, Tape and Reel; FirstPublished: 29-Jan-2009; DatasheetVersion: revC, Mar-2007; PackageVersion: revBB, Aug-2009; PackageReference: SSOP-SS20; Publisher: Altium Limited; PackageDescription: 20-Lead Plastic Shrink Small Outline (SS) - 5.3mm Body [SSOP]; Code_JEDEC: MO-150; Code_IPC: SOP65P780-20; ComponentLink1Description: Datasheet; ComponentLink1URL: http://ww1.microchip.com/downloads/en/DeviceDoc/39758c.pdf; ComponentLink2Description: Packaging Specification; ComponentLink2URL: http://www.microchip.com/stellent/groups/techpub_sg/documents/packagingspec/en012702.pdf; ComponentLink3Description: Microchip.com Home; ComponentLink3URL: http://www.microchip.com/
footprint SSOP-SS20_N (SOP, 20-Leads, Body 7.2x5.2mm, Pitch 0.65mm, IPC Medium Density)
footprint SSOP-SS20_L (SOP, 20-Leads, Body 7.2x5.2mm, Pitch 0.65mm, IPC High Density)
footprint SSOP-SS20_M (SOP, 20-Leads, Body 7.2x5.2mm, Pitch 0.65mm, IPC Low Density)
pins: 1 RA0/AN0/INT0/KBI0/CMP0 (io), 2 RA1/AN1/INT1/KBI1 (io), 3 RA4/T0CKI/AN2/VREF+ (io), 4 ~{MCLR}/VPP/RA5/~{FLTA} (in), 5 VSS (power), 6 AVSS (power), 7 RA2/TX/CK (io), 8 RA3/RX/DT (io), 9 RB0/PWM0 (io), 10 RB1/PWM1 (io), 11 RB4/PWM2 (io), 12 RB5/PWM3 (io), 13 RB6/PWM4/PGC (io), 14 RB7/PWM5/PGD (io), 15 AVDD (power), 16 VDD (power), 17 RA6/OSC2/CLKO/T1OSO/T1CKI/AN3 (io), 18 RA7/OSC1/CLKI/T1OSI/~{FLTA} (io), 19 RB2/INT2/KBI2/CMP2/T1OSO/T1CKI (io), 20 RB3/INT3/KBI3/CMP1/T1OSI (io)

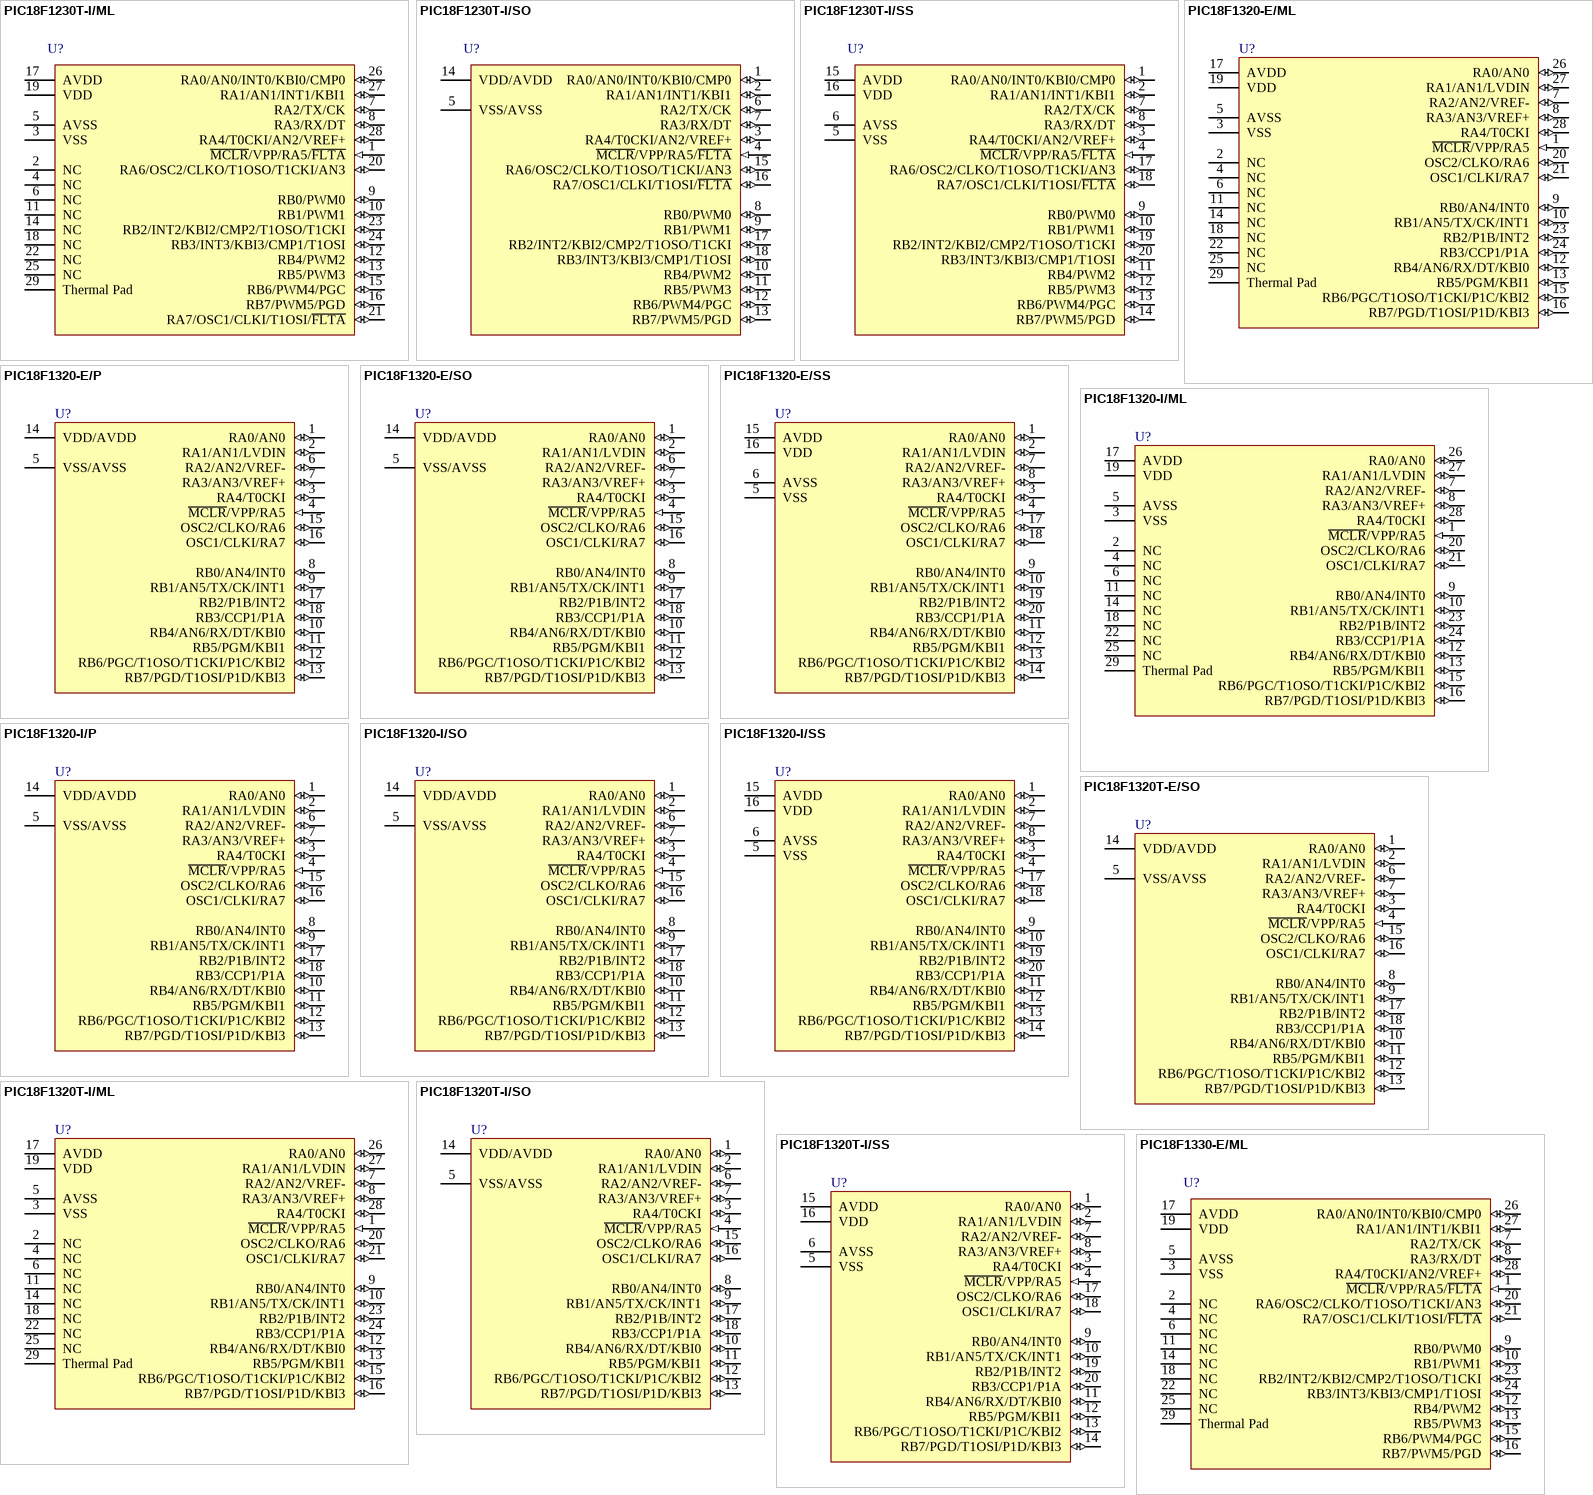
[diagram p46: symbols PIC18F1230T-I/ML to PIC18F1330-E/ML]

## PIC18F1230T-I/ML
designator U?
Enhanced Flash Microcontroller with nanoWatt Technology, High Performance PWM and A/D, 4K Flash, 28-Pin QFN, Industrial Temperature, Tape and Reel; FirstPublished: 29-Jan-2009; DatasheetVersion: revC, Mar-2007; PackageVersion: revBB, Aug-2009; PackageReference: QFN-ML28; Publisher: Altium Limited; PackageDescription: 28-Lead Plastic Quad Flat, No Lead Package (ML) - 6x6 mm Body [QFN] with 0.55 mm Contact Length; Supplier 1: Digi-Key; Supplier Part Number 1: PIC18F1230T-I/MLTR-ND; Supplier 2: Newark; Supplier Part Number 2: 88K5941; Code_JEDEC: MO-220; Code_IPC: QFN65P600X600-28V; ComponentLink1Description: Datasheet; ComponentLink1URL: http://ww1.microchip.com/downloads/en/DeviceDoc/39758c.pdf; ComponentLink2Description: Packaging Specification; ComponentLink2URL: http://www.microchip.com/stellent/groups/techpub_sg/documents/packagingspec/en012702.pdf; ComponentLink3Description: Microchip.com Home; ComponentLink3URL: http://www.microchip.com/
footprint QFN-ML28_N (QFN, 28-Leads, Body 6x6 mm, Pitch 0.65mm, IPC Medium Density)
footprint QFN-ML28_L (QFN, 28-Leads, Body 6x6 mm, Pitch 0.65mm, IPC High Density)
footprint QFN-ML28_M (QFN, 28-Leads, Body 6x6 mm, Pitch 0.65mm, IPC Low Density)
pins: 1 ~{MCLR}/VPP/RA5/~{FLTA} (in), 2 NC, 3 VSS (power), 4 NC, 5 AVSS (power), 6 NC, 7 RA2/TX/CK (io), 8 RA3/RX/DT (io), 9 RB0/PWM0 (io), 10 RB1/PWM1 (io), 11 NC, 12 RB4/PWM2 (io), 13 RB5/PWM3 (io), 14 NC, 15 RB6/PWM4/PGC (io), 16 RB7/PWM5/PGD (io), 17 AVDD (power), 18 NC, 19 VDD (power), 20 RA6/OSC2/CLKO/T1OSO/T1CKI/AN3 (io), 21 RA7/OSC1/CLKI/T1OSI/~{FLTA} (io), 22 NC, 23 RB2/INT2/KBI2/CMP2/T1OSO/T1CKI (io), 24 RB3/INT3/KBI3/CMP1/T1OSI (io), 25 NC, 26 RA0/AN0/INT0/KBI0/CMP0 (io), 27 RA1/AN1/INT1/KBI1 (io), 28 RA4/T0CKI/AN2/VREF+ (io), 29 Thermal Pad (power)

## PIC18F1230T-I/SO
designator U?
Enhanced Flash Microcontroller with nanoWatt Technology, High Performance PWM and A/D, 4K Flash, 18-Pin SOIC, Industrial Temperature, Tape and Reel; FirstPublished: 29-Jan-2009; DatasheetVersion: revC, Mar-2007; PackageVersion: revBB, Aug-2009; PackageReference: SOIC-SO18; Publisher: Altium Limited; PackageDescription: 18-Lead Plastic Small Outline (SO) - Wide 7.50mm Body [SOIC]; Supplier 1: Digi-Key; Supplier Part Number 1: PIC18F1230T-I/SOTR-ND; Supplier 2: Newark; Supplier Part Number 2: 88K5942; Code_JEDEC: MS-013; ComponentLink1Description: Datasheet; ComponentLink1URL: http://ww1.microchip.com/downloads/en/DeviceDoc/39758c.pdf; ComponentLink2Description: Packaging Specification; ComponentLink2URL: http://www.microchip.com/stellent/groups/techpub_sg/documents/packagingspec/en012702.pdf; ComponentLink3Description: Microchip.com Home; ComponentLink3URL: http://www.microchip.com/
footprint SOIC-SO18_N (SOIC, 18-Leads, Body 11.5x7.5mm, Pitch 1.27mm, IPC Medium Density)
footprint SOIC-SO18_L (SOIC, 18-Leads, Body 11.5x7.5mm, Pitch 1.27mm, IPC High Density)
footprint SOIC-SO18_M (SOIC, 18-Leads, Body 11.5x7.5mm, Pitch 1.27mm, IPC Low Density)
pins: 1 RA0/AN0/INT0/KBI0/CMP0 (io), 2 RA1/AN1/INT1/KBI1 (io), 3 RA4/T0CKI/AN2/VREF+ (io), 4 ~{MCLR}/VPP/RA5/~{FLTA} (in), 5 VSS/AVSS (power), 6 RA2/TX/CK (io), 7 RA3/RX/DT (io), 8 RB0/PWM0 (io), 9 RB1/PWM1 (io), 10 RB4/PWM2 (io), 11 RB5/PWM3 (io), 12 RB6/PWM4/PGC (io), 13 RB7/PWM5/PGD (io), 14 VDD/AVDD (power), 15 RA6/OSC2/CLKO/T1OSO/T1CKI/AN3 (io), 16 RA7/OSC1/CLKI/T1OSI/~{FLTA} (io), 17 RB2/INT2/KBI2/CMP2/T1OSO/T1CKI (io), 18 RB3/INT3/KBI3/CMP1/T1OSI (io)

## PIC18F1230T-I/SS
designator U?
Enhanced Flash Microcontroller with nanoWatt Technology, High Performance PWM and A/D, 4K Flash, 20-Pin SSOP, Industrial Temperature, Tape and Reel; FirstPublished: 29-Jan-2009; DatasheetVersion: revC, Mar-2007; PackageVersion: revBB, Aug-2009; PackageReference: SSOP-SS20; Publisher: Altium Limited; PackageDescription: 20-Lead Plastic Shrink Small Outline (SS) - 5.3mm Body [SSOP]; Supplier 1: Digi-Key; Supplier Part Number 1: PIC18F1230T-I/SSTR-ND; Supplier 2: Newark; Supplier Part Number 2: 88K5943; Code_JEDEC: MO-150; Code_IPC: SOP65P780-20; ComponentLink1Description: Datasheet; ComponentLink1URL: http://ww1.microchip.com/downloads/en/DeviceDoc/39758c.pdf; ComponentLink2Description: Packaging Specification; ComponentLink2URL: http://www.microchip.com/stellent/groups/techpub_sg/documents/packagingspec/en012702.pdf; ComponentLink3Description: Microchip.com Home; ComponentLink3URL: http://www.microchip.com/
footprint SSOP-SS20_N (SOP, 20-Leads, Body 7.2x5.2mm, Pitch 0.65mm, IPC Medium Density)
footprint SSOP-SS20_L (SOP, 20-Leads, Body 7.2x5.2mm, Pitch 0.65mm, IPC High Density)
footprint SSOP-SS20_M (SOP, 20-Leads, Body 7.2x5.2mm, Pitch 0.65mm, IPC Low Density)
pins: 1 RA0/AN0/INT0/KBI0/CMP0 (io), 2 RA1/AN1/INT1/KBI1 (io), 3 RA4/T0CKI/AN2/VREF+ (io), 4 ~{MCLR}/VPP/RA5/~{FLTA} (in), 5 VSS (power), 6 AVSS (power), 7 RA2/TX/CK (io), 8 RA3/RX/DT (io), 9 RB0/PWM0 (io), 10 RB1/PWM1 (io), 11 RB4/PWM2 (io), 12 RB5/PWM3 (io), 13 RB6/PWM4/PGC (io), 14 RB7/PWM5/PGD (io), 15 AVDD (power), 16 VDD (power), 17 RA6/OSC2/CLKO/T1OSO/T1CKI/AN3 (io), 18 RA7/OSC1/CLKI/T1OSI/~{FLTA} (io), 19 RB2/INT2/KBI2/CMP2/T1OSO/T1CKI (io), 20 RB3/INT3/KBI3/CMP1/T1OSI (io)

## PIC18F1320-E/ML
designator U?
High Performance, Enhanced Flash Microcontroller with 10-Bit A/D and nanoWatt Technology, 8K Flash, 28-Pin QFN, Extended Temperature; FirstPublished: 11-Oct-2004; LatestRevisionDate: 29-Jan-2009; LatestRevisionNote: Sch. layout revised. 3D Model Removed.; DatasheetVersion: revF, Feb-2007; PackageVersion: revBB, Aug-2009; PackageReference: QFN-ML28; Publisher: Altium Limited; PackageDescription: 28-Lead Plastic Quad Flat, No Lead Package (ML) - 6x6 mm Body [QFN] with 0.55 mm Contact Length; Supplier 1: Digi-Key; Supplier Part Number 1: PIC18F1320-E/ML-ND; Supplier 2: Newark; Supplier Part Number 2: 92C5004; Code_JEDEC: MO-220; Code_IPC: QFN65P600X600-28V; ComponentLink1Description: Datasheet; ComponentLink1URL: http://ww1.microchip.com/downloads/en/DeviceDoc/39605F.pdf; ComponentLink2Description: Packaging Specification; ComponentLink2URL: http://www.microchip.com/stellent/groups/techpub_sg/documents/packagingspec/en012702.pdf; ComponentLink3Description: Microchip.com Home; ComponentLink3URL: http://www.microchip.com/
footprint QFN-ML28_N (QFN, 28-Leads, Body 6x6 mm, Pitch 0.65mm, IPC Medium Density)
footprint QFN-ML28_L (QFN, 28-Leads, Body 6x6 mm, Pitch 0.65mm, IPC High Density)
footprint QFN-ML28_M (QFN, 28-Leads, Body 6x6 mm, Pitch 0.65mm, IPC Low Density)
pins: 1 ~{MCLR}/VPP/RA5 (in), 2 NC, 3 VSS (power), 4 NC, 5 AVSS (power), 6 NC, 7 RA2/AN2/VREF- (io), 8 RA3/AN3/VREF+ (io), 9 RB0/AN4/INT0 (io), 10 RB1/AN5/TX/CK/INT1 (io), 11 NC, 12 RB4/AN6/RX/DT/KBI0 (io), 13 RB5/PGM/KBI1 (io), 14 NC, 15 RB6/PGC/T1OSO/T1CKI/P1C/KBI2 (io), 16 RB7/PGD/T1OSI/P1D/KBI3 (io), 17 AVDD (power), 18 NC, 19 VDD (power), 20 OSC2/CLKO/RA6 (io), 21 OSC1/CLKI/RA7 (io), 22 NC, 23 RB2/P1B/INT2 (io), 24 RB3/CCP1/P1A (io), 25 NC, 26 RA0/AN0 (io), 27 RA1/AN1/LVDIN (io), 28 RA4/T0CKI (io), 29 Thermal Pad (power)

## PIC18F1320-E/P
designator U?
High Performance, Enhanced Flash Microcontroller with 10-Bit A/D and nanoWatt Technology, 8K Flash, 18-Pin PDIP, Extended Temperature; FirstPublished: 11-Oct-2004; LatestRevisionDate: 29-Jan-2009; LatestRevisionNote: Sch. layout revised. 3D Model Removed.; DatasheetVersion: revF, Feb-2007; PackageVersion: revBB, Aug-2009; PackageReference: PDIP300-P18; Publisher: Altium Limited; PackageDescription: 18-Lead Plastic Dual In-Line (P) - 300 mil Body [PDIP]; Supplier 1: Digi-Key; Supplier Part Number 1: PIC18F1320-E/P-ND; Supplier 2: Newark; Supplier Part Number 2: 92C5005; Code_JEDEC: MS-001; ComponentLink1Description: Datasheet; ComponentLink1URL: http://ww1.microchip.com/downloads/en/DeviceDoc/39605F.pdf; ComponentLink2Description: Packaging Specification; ComponentLink2URL: http://www.microchip.com/stellent/groups/techpub_sg/documents/packagingspec/en012702.pdf; ComponentLink3Description: Microchip.com Home; ComponentLink3URL: http://www.microchip.com/
footprint PDIP300-P18 (DIP, 18-Leads, Row Spacing 7.62mm, Pitch 2.54mm, Body 22.9x6.6mm)
pins: 1 RA0/AN0 (io), 2 RA1/AN1/LVDIN (io), 3 RA4/T0CKI (io), 4 ~{MCLR}/VPP/RA5 (in), 5 VSS/AVSS (power), 6 RA2/AN2/VREF- (io), 7 RA3/AN3/VREF+ (io), 8 RB0/AN4/INT0 (io), 9 RB1/AN5/TX/CK/INT1 (io), 10 RB4/AN6/RX/DT/KBI0 (io), 11 RB5/PGM/KBI1 (io), 12 RB6/PGC/T1OSO/T1CKI/P1C/KBI2 (io), 13 RB7/PGD/T1OSI/P1D/KBI3 (io), 14 VDD/AVDD (power), 15 OSC2/CLKO/RA6 (io), 16 OSC1/CLKI/RA7 (io), 17 RB2/P1B/INT2 (io), 18 RB3/CCP1/P1A (io)

## PIC18F1320-E/SO
designator U?
High Performance, Enhanced Flash Microcontroller with 10-Bit A/D and nanoWatt Technology, 8K Flash, 18-Pin SOIC, Extended Temperature; FirstPublished: 11-Oct-2004; LatestRevisionDate: 29-Jan-2009; LatestRevisionNote: Sch. layout revised. 3D Model Removed.; DatasheetVersion: revF, Feb-2007; PackageVersion: revBB, Aug-2009; PackageReference: SOIC-SO18; Publisher: Altium Limited; PackageDescription: 18-Lead Plastic Small Outline (SO) - Wide 7.50mm Body [SOIC]; Supplier 1: Digi-Key; Supplier Part Number 1: PIC18F1320-E/SO-ND; Supplier 2: Newark; Supplier Part Number 2: 92C5006; Code_JEDEC: MS-013; ComponentLink1Description: Datasheet; ComponentLink1URL: http://ww1.microchip.com/downloads/en/DeviceDoc/39605F.pdf; ComponentLink2Description: Packaging Specification; ComponentLink2URL: http://www.microchip.com/stellent/groups/techpub_sg/documents/packagingspec/en012702.pdf; ComponentLink3Description: Microchip.com Home; ComponentLink3URL: http://www.microchip.com/
footprint SOIC-SO18_N (SOIC, 18-Leads, Body 11.5x7.5mm, Pitch 1.27mm, IPC Medium Density)
footprint SOIC-SO18_L (SOIC, 18-Leads, Body 11.5x7.5mm, Pitch 1.27mm, IPC High Density)
footprint SOIC-SO18_M (SOIC, 18-Leads, Body 11.5x7.5mm, Pitch 1.27mm, IPC Low Density)
pins: 1 RA0/AN0 (io), 2 RA1/AN1/LVDIN (io), 3 RA4/T0CKI (io), 4 ~{MCLR}/VPP/RA5 (in), 5 VSS/AVSS (power), 6 RA2/AN2/VREF- (io), 7 RA3/AN3/VREF+ (io), 8 RB0/AN4/INT0 (io), 9 RB1/AN5/TX/CK/INT1 (io), 10 RB4/AN6/RX/DT/KBI0 (io), 11 RB5/PGM/KBI1 (io), 12 RB6/PGC/T1OSO/T1CKI/P1C/KBI2 (io), 13 RB7/PGD/T1OSI/P1D/KBI3 (io), 14 VDD/AVDD (power), 15 OSC2/CLKO/RA6 (io), 16 OSC1/CLKI/RA7 (io), 17 RB2/P1B/INT2 (io), 18 RB3/CCP1/P1A (io)

## PIC18F1320-E/SS
designator U?
High Performance, Enhanced Flash Microcontroller with 10-Bit A/D and nanoWatt Technology, 8K Flash, 20-Pin SSOP, Extended Temperature; FirstPublished: 11-Oct-2004; LatestRevisionDate: 29-Jan-2009; LatestRevisionNote: Sch. layout revised. 3D Model Removed.; DatasheetVersion: revF, Feb-2007; PackageVersion: revBB, Aug-2009; PackageReference: SSOP-SS20; Publisher: Altium Limited; PackageDescription: 20-Lead Plastic Shrink Small Outline (SS) - 5.3mm Body [SSOP]; Supplier 1: Digi-Key; Supplier Part Number 1: PIC18F1320-E/SS-ND; Supplier 2: Newark; Supplier Part Number 2: 92C5007; Code_JEDEC: MO-150; Code_IPC: SOP65P780-20; ComponentLink1Description: Datasheet; ComponentLink1URL: http://ww1.microchip.com/downloads/en/DeviceDoc/39605F.pdf; ComponentLink2Description: Packaging Specification; ComponentLink2URL: http://www.microchip.com/stellent/groups/techpub_sg/documents/packagingspec/en012702.pdf; ComponentLink3Description: Microchip.com Home; ComponentLink3URL: http://www.microchip.com/
footprint SSOP-SS20_N (SOP, 20-Leads, Body 7.2x5.2mm, Pitch 0.65mm, IPC Medium Density)
footprint SSOP-SS20_L (SOP, 20-Leads, Body 7.2x5.2mm, Pitch 0.65mm, IPC High Density)
footprint SSOP-SS20_M (SOP, 20-Leads, Body 7.2x5.2mm, Pitch 0.65mm, IPC Low Density)
pins: 1 RA0/AN0 (io), 2 RA1/AN1/LVDIN (io), 3 RA4/T0CKI (io), 4 ~{MCLR}/VPP/RA5 (in), 5 VSS (power), 6 AVSS (power), 7 RA2/AN2/VREF- (io), 8 RA3/AN3/VREF+ (io), 9 RB0/AN4/INT0 (io), 10 RB1/AN5/TX/CK/INT1 (io), 11 RB4/AN6/RX/DT/KBI0 (io), 12 RB5/PGM/KBI1 (io), 13 RB6/PGC/T1OSO/T1CKI/P1C/KBI2 (io), 14 RB7/PGD/T1OSI/P1D/KBI3 (io), 15 AVDD (power), 16 VDD (power), 17 OSC2/CLKO/RA6 (io), 18 OSC1/CLKI/RA7 (io), 19 RB2/P1B/INT2 (io), 20 RB3/CCP1/P1A (io)

## PIC18F1320-I/ML
designator U?
High Performance, Enhanced Flash Microcontroller with 10-Bit A/D and nanoWatt Technology, 8K Flash, 28-Pin QFN, Industrial Temperature; FirstPublished: 11-Oct-2004; LatestRevisionDate: 29-Jan-2009; LatestRevisionNote: Sch. layout revised. 3D Model Removed.; DatasheetVersion: revF, Feb-2007; PackageVersion: revBB, Aug-2009; PackageReference: QFN-ML28; Publisher: Altium Limited; PackageDescription: 28-Lead Plastic Quad Flat, No Lead Package (ML) - 6x6 mm Body [QFN] with 0.55 mm Contact Length; Supplier 1: Digi-Key; Supplier Part Number 1: PIC18F1320-I/ML-ND; Supplier 2: Farnell; Supplier Part Number 2: 9762000; Supplier 3: Newark; Supplier Part Number 3: 92C5008; Code_JEDEC: MO-220; Code_IPC: QFN65P600X600-28V; ComponentLink1Description: Datasheet; ComponentLink1URL: http://ww1.microchip.com/downloads/en/DeviceDoc/39605F.pdf; ComponentLink2Description: Packaging Specification; ComponentLink2URL: http://www.microchip.com/stellent/groups/techpub_sg/documents/packagingspec/en012702.pdf; ComponentLink3Description: Microchip.com Home; ComponentLink3URL: http://www.microchip.com/
footprint QFN-ML28_N (QFN, 28-Leads, Body 6x6 mm, Pitch 0.65mm, IPC Medium Density)
footprint QFN-ML28_L (QFN, 28-Leads, Body 6x6 mm, Pitch 0.65mm, IPC High Density)
footprint QFN-ML28_M (QFN, 28-Leads, Body 6x6 mm, Pitch 0.65mm, IPC Low Density)
pins: 1 ~{MCLR}/VPP/RA5 (in), 2 NC, 3 VSS (power), 4 NC, 5 AVSS (power), 6 NC, 7 RA2/AN2/VREF- (io), 8 RA3/AN3/VREF+ (io), 9 RB0/AN4/INT0 (io), 10 RB1/AN5/TX/CK/INT1 (io), 11 NC, 12 RB4/AN6/RX/DT/KBI0 (io), 13 RB5/PGM/KBI1 (io), 14 NC, 15 RB6/PGC/T1OSO/T1CKI/P1C/KBI2 (io), 16 RB7/PGD/T1OSI/P1D/KBI3 (io), 17 AVDD (power), 18 NC, 19 VDD (power), 20 OSC2/CLKO/RA6 (io), 21 OSC1/CLKI/RA7 (io), 22 NC, 23 RB2/P1B/INT2 (io), 24 RB3/CCP1/P1A (io), 25 NC, 26 RA0/AN0 (io), 27 RA1/AN1/LVDIN (io), 28 RA4/T0CKI (io), 29 Thermal Pad (power)

## PIC18F1320-I/P
designator U?
High Performance, Enhanced Flash Microcontroller with 10-Bit A/D and nanoWatt Technology, 8K Flash, 18-Pin PDIP, Industrial Temperature; FirstPublished: 11-Oct-2004; LatestRevisionDate: 29-Jan-2009; LatestRevisionNote: Sch. layout revised. 3D Model Removed.; DatasheetVersion: revF, Feb-2007; PackageVersion: revBB, Aug-2009; PackageReference: PDIP300-P18; Publisher: Altium Limited; PackageDescription: 18-Lead Plastic Dual In-Line (P) - 300 mil Body [PDIP]; Supplier 1: Digi-Key; Supplier Part Number 1: PIC18F1320-I/P-ND; Supplier 2: Farnell; Supplier Part Number 2: 1660046; Supplier 3: Farnell; Supplier Part Number 3: 9771476; Supplier 4: Farnell; Supplier Part Number 4: 9762019; Supplier 5: Newark; Supplier Part Number 5: 92C2431; Code_JEDEC: MS-001; ComponentLink1Description: Datasheet; ComponentLink1URL: http://ww1.microchip.com/downloads/en/DeviceDoc/39605F.pdf; ComponentLink2Description: Packaging Specification; ComponentLink2URL: http://www.microchip.com/stellent/groups/techpub_sg/documents/packagingspec/en012702.pdf; ComponentLink3Description: Microchip.com Home; ComponentLink3URL: http://www.microchip.com/
footprint PDIP300-P18 (DIP, 18-Leads, Row Spacing 7.62mm, Pitch 2.54mm, Body 22.9x6.6mm)
pins: 1 RA0/AN0 (io), 2 RA1/AN1/LVDIN (io), 3 RA4/T0CKI (io), 4 ~{MCLR}/VPP/RA5 (in), 5 VSS/AVSS (power), 6 RA2/AN2/VREF- (io), 7 RA3/AN3/VREF+ (io), 8 RB0/AN4/INT0 (io), 9 RB1/AN5/TX/CK/INT1 (io), 10 RB4/AN6/RX/DT/KBI0 (io), 11 RB5/PGM/KBI1 (io), 12 RB6/PGC/T1OSO/T1CKI/P1C/KBI2 (io), 13 RB7/PGD/T1OSI/P1D/KBI3 (io), 14 VDD/AVDD (power), 15 OSC2/CLKO/RA6 (io), 16 OSC1/CLKI/RA7 (io), 17 RB2/P1B/INT2 (io), 18 RB3/CCP1/P1A (io)

## PIC18F1320-I/SO
designator U?
High Performance, Enhanced Flash Microcontroller with 10-Bit A/D and nanoWatt Technology, 8K Flash, 18-Pin SOIC, Industrial Temperature; FirstPublished: 11-Oct-2004; LatestRevisionDate: 29-Jan-2009; LatestRevisionNote: Sch. layout revised. 3D Model Removed.; DatasheetVersion: revF, Feb-2007; PackageVersion: revBB, Aug-2009; PackageReference: SOIC-SO18; Publisher: Altium Limited; PackageDescription: 18-Lead Plastic Small Outline (SO) - Wide 7.50mm Body [SOIC]; Supplier 1: Digi-Key; Supplier Part Number 1: PIC18F1320-I/SO-ND; Supplier 2: Farnell; Supplier Part Number 2: 1660047; Supplier 3: Farnell; Supplier Part Number 3: 9762027; Supplier 4: Newark; Supplier Part Number 4: 59K0253; Code_JEDEC: MS-013; ComponentLink1Description: Datasheet; ComponentLink1URL: http://ww1.microchip.com/downloads/en/DeviceDoc/39605F.pdf; ComponentLink2Description: Packaging Specification; ComponentLink2URL: http://www.microchip.com/stellent/groups/techpub_sg/documents/packagingspec/en012702.pdf; ComponentLink3Description: Microchip.com Home; ComponentLink3URL: http://www.microchip.com/
footprint SOIC-SO18_N (SOIC, 18-Leads, Body 11.5x7.5mm, Pitch 1.27mm, IPC Medium Density)
footprint SOIC-SO18_L (SOIC, 18-Leads, Body 11.5x7.5mm, Pitch 1.27mm, IPC High Density)
footprint SOIC-SO18_M (SOIC, 18-Leads, Body 11.5x7.5mm, Pitch 1.27mm, IPC Low Density)
pins: 1 RA0/AN0 (io), 2 RA1/AN1/LVDIN (io), 3 RA4/T0CKI (io), 4 ~{MCLR}/VPP/RA5 (in), 5 VSS/AVSS (power), 6 RA2/AN2/VREF- (io), 7 RA3/AN3/VREF+ (io), 8 RB0/AN4/INT0 (io), 9 RB1/AN5/TX/CK/INT1 (io), 10 RB4/AN6/RX/DT/KBI0 (io), 11 RB5/PGM/KBI1 (io), 12 RB6/PGC/T1OSO/T1CKI/P1C/KBI2 (io), 13 RB7/PGD/T1OSI/P1D/KBI3 (io), 14 VDD/AVDD (power), 15 OSC2/CLKO/RA6 (io), 16 OSC1/CLKI/RA7 (io), 17 RB2/P1B/INT2 (io), 18 RB3/CCP1/P1A (io)

## PIC18F1320-I/SS
designator U?
High Performance, Enhanced Flash Microcontroller with 10-Bit A/D and nanoWatt Technology, 8K Flash, 20-Pin SSOP, Industrial Temperature; FirstPublished: 11-Oct-2004; LatestRevisionDate: 29-Jan-2009; LatestRevisionNote: Sch. layout revised. 3D Model Removed.; DatasheetVersion: revF, Feb-2007; PackageVersion: revBB, Aug-2009; PackageReference: SSOP-SS20; Publisher: Altium Limited; PackageDescription: 20-Lead Plastic Shrink Small Outline (SS) - 5.3mm Body [SSOP]; Supplier 1: Digi-Key; Supplier Part Number 1: PIC18F1320-I/SS-ND; Supplier 2: Farnell; Supplier Part Number 2: 1084333; Supplier 3: Newark; Supplier Part Number 3: 92C5009; Code_JEDEC: MO-150; Code_IPC: SOP65P780-20; ComponentLink1Description: Datasheet; ComponentLink1URL: http://ww1.microchip.com/downloads/en/DeviceDoc/39605F.pdf; ComponentLink2Description: Packaging Specification; ComponentLink2URL: http://www.microchip.com/stellent/groups/techpub_sg/documents/packagingspec/en012702.pdf; ComponentLink3Description: Microchip.com Home; ComponentLink3URL: http://www.microchip.com/
footprint SSOP-SS20_N (SOP, 20-Leads, Body 7.2x5.2mm, Pitch 0.65mm, IPC Medium Density)
footprint SSOP-SS20_L (SOP, 20-Leads, Body 7.2x5.2mm, Pitch 0.65mm, IPC High Density)
footprint SSOP-SS20_M (SOP, 20-Leads, Body 7.2x5.2mm, Pitch 0.65mm, IPC Low Density)
pins: 1 RA0/AN0 (io), 2 RA1/AN1/LVDIN (io), 3 RA4/T0CKI (io), 4 ~{MCLR}/VPP/RA5 (in), 5 VSS (power), 6 AVSS (power), 7 RA2/AN2/VREF- (io), 8 RA3/AN3/VREF+ (io), 9 RB0/AN4/INT0 (io), 10 RB1/AN5/TX/CK/INT1 (io), 11 RB4/AN6/RX/DT/KBI0 (io), 12 RB5/PGM/KBI1 (io), 13 RB6/PGC/T1OSO/T1CKI/P1C/KBI2 (io), 14 RB7/PGD/T1OSI/P1D/KBI3 (io), 15 AVDD (power), 16 VDD (power), 17 OSC2/CLKO/RA6 (io), 18 OSC1/CLKI/RA7 (io), 19 RB2/P1B/INT2 (io), 20 RB3/CCP1/P1A (io)

## PIC18F1320T-E/SO
designator U?
High Performance, Enhanced Flash Microcontroller with 10-Bit A/D and nanoWatt Technology, 8K Flash, 18-Pin SOIC, Extended Temperature, Tape and Reel; FirstPublished: 2-Dec-2009; DatasheetVersion: revF, Feb-2007; PackageVersion: revBB, Aug-2009; PackageReference: SOIC-SO18; Publisher: Altium Limited; PackageDescription: 18-Lead Plastic Small Outline (SO) - Wide 7.50mm Body [SOIC]; Supplier 1: Digi-Key; Supplier Part Number 1: PIC18F1320T-E/SO-ND; Code_JEDEC: MS-013; ComponentLink1Description: Datasheet; ComponentLink1URL: http://ww1.microchip.com/downloads/en/DeviceDoc/39605F.pdf; ComponentLink2Description: Packaging Specification; ComponentLink2URL: http://www.microchip.com/stellent/groups/techpub_sg/documents/packagingspec/en012702.pdf; ComponentLink3Description: Microchip.com Home; ComponentLink3URL: http://www.microchip.com/
footprint SOIC-SO18_N (SOIC, 18-Leads, Body 11.5x7.5mm, Pitch 1.27mm, IPC Medium Density)
footprint SOIC-SO18_L (SOIC, 18-Leads, Body 11.5x7.5mm, Pitch 1.27mm, IPC High Density)
footprint SOIC-SO18_M (SOIC, 18-Leads, Body 11.5x7.5mm, Pitch 1.27mm, IPC Low Density)
pins: 1 RA0/AN0 (io), 2 RA1/AN1/LVDIN (io), 3 RA4/T0CKI (io), 4 ~{MCLR}/VPP/RA5 (in), 5 VSS/AVSS (power), 6 RA2/AN2/VREF- (io), 7 RA3/AN3/VREF+ (io), 8 RB0/AN4/INT0 (io), 9 RB1/AN5/TX/CK/INT1 (io), 10 RB4/AN6/RX/DT/KBI0 (io), 11 RB5/PGM/KBI1 (io), 12 RB6/PGC/T1OSO/T1CKI/P1C/KBI2 (io), 13 RB7/PGD/T1OSI/P1D/KBI3 (io), 14 VDD/AVDD (power), 15 OSC2/CLKO/RA6 (io), 16 OSC1/CLKI/RA7 (io), 17 RB2/P1B/INT2 (io), 18 RB3/CCP1/P1A (io)

## PIC18F1320T-I/ML
designator U?
High Performance, Enhanced Flash Microcontroller with 10-Bit A/D and nanoWatt Technology, 8K Flash, 28-Pin QFN, Industrial Temperature, Tape and Reel; FirstPublished: 11-Oct-2004; LatestRevisionDate: 29-Jan-2009; LatestRevisionNote: Sch. layout revised. 3D Model Removed.; DatasheetVersion: revF, Feb-2007; PackageVersion: revBB, Aug-2009; PackageReference: QFN-ML28; Publisher: Altium Limited; PackageDescription: 28-Lead Plastic Quad Flat, No Lead Package (ML) - 6x6 mm Body [QFN] with 0.55 mm Contact Length; Supplier 1: Digi-Key; Supplier Part Number 1: PIC18F1320T-I/ML-ND; Supplier 2: Newark; Supplier Part Number 2: 92C5013; Code_JEDEC: MO-220; Code_IPC: QFN65P600X600-28V; ComponentLink1Description: Datasheet; ComponentLink1URL: http://ww1.microchip.com/downloads/en/DeviceDoc/39605F.pdf; ComponentLink2Description: Packaging Specification; ComponentLink2URL: http://www.microchip.com/stellent/groups/techpub_sg/documents/packagingspec/en012702.pdf; ComponentLink3Description: Microchip.com Home; ComponentLink3URL: http://www.microchip.com/
footprint QFN-ML28_N (QFN, 28-Leads, Body 6x6 mm, Pitch 0.65mm, IPC Medium Density)
footprint QFN-ML28_L (QFN, 28-Leads, Body 6x6 mm, Pitch 0.65mm, IPC High Density)
footprint QFN-ML28_M (QFN, 28-Leads, Body 6x6 mm, Pitch 0.65mm, IPC Low Density)
pins: 1 ~{MCLR}/VPP/RA5 (in), 2 NC, 3 VSS (power), 4 NC, 5 AVSS (power), 6 NC, 7 RA2/AN2/VREF- (io), 8 RA3/AN3/VREF+ (io), 9 RB0/AN4/INT0 (io), 10 RB1/AN5/TX/CK/INT1 (io), 11 NC, 12 RB4/AN6/RX/DT/KBI0 (io), 13 RB5/PGM/KBI1 (io), 14 NC, 15 RB6/PGC/T1OSO/T1CKI/P1C/KBI2 (io), 16 RB7/PGD/T1OSI/P1D/KBI3 (io), 17 AVDD (power), 18 NC, 19 VDD (power), 20 OSC2/CLKO/RA6 (io), 21 OSC1/CLKI/RA7 (io), 22 NC, 23 RB2/P1B/INT2 (io), 24 RB3/CCP1/P1A (io), 25 NC, 26 RA0/AN0 (io), 27 RA1/AN1/LVDIN (io), 28 RA4/T0CKI (io), 29 Thermal Pad (power)

## PIC18F1320T-I/SO
designator U?
High Performance, Enhanced Flash Microcontroller with 10-Bit A/D and nanoWatt Technology, 8K Flash, 18-Pin SOIC, Industrial Temperature, Tape and Reel; FirstPublished: 11-Oct-2004; LatestRevisionDate: 29-Jan-2009; LatestRevisionNote: Sch. layout revised. 3D Model Removed.; DatasheetVersion: revF, Feb-2007; PackageVersion: revBB, Aug-2009; PackageReference: SOIC-SO18; Publisher: Altium Limited; PackageDescription: 18-Lead Plastic Small Outline (SO) - Wide 7.50mm Body [SOIC]; Supplier 1: Digi-Key; Supplier Part Number 1: PIC18F1320T-I/SO-ND; Code_JEDEC: MS-013; ComponentLink1Description: Datasheet; ComponentLink1URL: http://ww1.microchip.com/downloads/en/DeviceDoc/39605F.pdf; ComponentLink2Description: Packaging Specification; ComponentLink2URL: http://www.microchip.com/stellent/groups/techpub_sg/documents/packagingspec/en012702.pdf; ComponentLink3Description: Microchip.com Home; ComponentLink3URL: http://www.microchip.com/
footprint SOIC-SO18_N (SOIC, 18-Leads, Body 11.5x7.5mm, Pitch 1.27mm, IPC Medium Density)
footprint SOIC-SO18_L (SOIC, 18-Leads, Body 11.5x7.5mm, Pitch 1.27mm, IPC High Density)
footprint SOIC-SO18_M (SOIC, 18-Leads, Body 11.5x7.5mm, Pitch 1.27mm, IPC Low Density)
pins: 1 RA0/AN0 (io), 2 RA1/AN1/LVDIN (io), 3 RA4/T0CKI (io), 4 ~{MCLR}/VPP/RA5 (in), 5 VSS/AVSS (power), 6 RA2/AN2/VREF- (io), 7 RA3/AN3/VREF+ (io), 8 RB0/AN4/INT0 (io), 9 RB1/AN5/TX/CK/INT1 (io), 10 RB4/AN6/RX/DT/KBI0 (io), 11 RB5/PGM/KBI1 (io), 12 RB6/PGC/T1OSO/T1CKI/P1C/KBI2 (io), 13 RB7/PGD/T1OSI/P1D/KBI3 (io), 14 VDD/AVDD (power), 15 OSC2/CLKO/RA6 (io), 16 OSC1/CLKI/RA7 (io), 17 RB2/P1B/INT2 (io), 18 RB3/CCP1/P1A (io)